# Altium schematic symbol library ERJ-P06F1001V.SchLib: 1 symbol
Pins are listed as number, name and electrical type; pins without a type are passive.

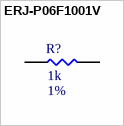
[diagram p0: symbol ERJ-P06F1001V]

## ERJ-P06F1001V
designator R?  Resistance: 1k  Tolerance: 1%  (hidden comment: ERJ-P06F1001V)
RES SMD 1K OHM 1% 1/2W 0805; MFR: Panasonic Electronic Components; PN: ERJ-P06F1001V; Footprint: RES0805; Package: 0805; ComponentLink1Description: Datasheet; ComponentLink1URL: https://www.mouser.com/datasheet/2/315/AOA0000C331-1141874.pdf; Power Rating: 1/2W; Supplier 1: Mouser; Supplier Part Number 1: 667-ERJ-P06F1001V
footprint RES0805 (Generic 0805 PCB Footprint)
pins: 1, 2